# Altium schematic symbol library ROB-14450.SchLib: 1 symbol
Pins are listed as number, name and electrical type; pins without a type are passive.

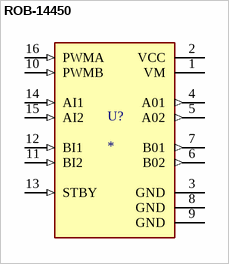
[diagram p0: symbol ROB-14450]

## ROB-14450
designator U?
TB6612FNG Motor Controller/Driver Power Management Evaluation Board; MP: ROB-14450; MF: SparkFun Electronics; Check_prices: https://www.snapeda.com/parts/ROB-14450/SparkFun%20Electronics/view-part/2656367/?ref=eda; Package: None; Value: *; Availability: In Stock; SnapEDA_Link: https://www.snapeda.com/parts/ROB-14450/SparkFun%20Electronics/view-part/2656367/?ref=snap; Price: None
footprint MODULE_ROB-14450
pins: 1 VM (power), 2 VCC (power), 3 GND (power), 4 A01 (out), 5 A02 (out), 6 B02 (out), 7 B01 (out), 8 GND (power), 9 GND (power), 10 PWMB (in), 11 BI2 (in), 12 BI1 (in), 13 STBY (in), 14 AI1 (in), 15 AI2 (in), 16 PWMA (in)